# EAGLE library part DS1340 (library NASA_LIB)
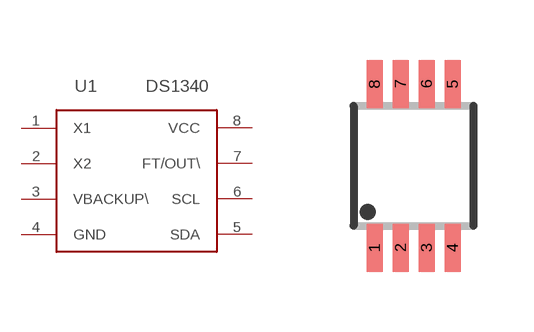
[diagram p7: symbol with the pads of MSOP8; footprint MSOP8]

Designator prefix U1

## DS1340  [MSOP8]
1  X1
2  X2
3  VBACKUP\
4  GND
5  SDA
6  SCL
7  FT/OUT\
8  VCC

## Footprint MSOP8 (pad centres in mm)
smd 0.4 x 1.2: 1 -0.975,-2.05; 2 -0.325,-2.05; 3 0.325,-2.05; 4 0.975,-2.05; 5 0.975,2.05; 6 0.325,2.05; 7 -0.325,2.05; 8 -0.975,2.05